# Altium schematic symbol library RCJ-044.SchLib: 1 symbol
Pins are listed as number, name and electrical type; pins without a type are passive.

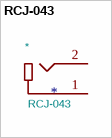
[diagram p0: symbol RCJ-043]

## RCJ-043
designator *  value RCJ-043
DESCRIPTION: Metal Right-Angle, RCA Jack, White Housing and Insulation; MF: CUI Devices; Footprint: CUI_RCJ-043; AVAILABILITY: Unavailable; PACKAGE: None; PRICE: None; CUI_PURCHASE_URL: https://www.cuidevices.com/product/interconnect/connectors/rca-connectors/rcj-04-series?utm_source=snapeda.com&utm_medium=referral&utm_campaign=snapedaBOM; MP: RCJ-043
footprint CUI_RCJ-043
pins: 1, 2